# Altium schematic symbol library Components.SchLib: 4 symbols
Pins are listed as number, name and electrical type; pins without a type are passive.

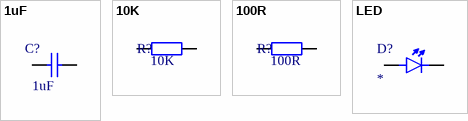
[diagram p0: symbols 1uF to LED]

## 1uF
designator C?
Capacitor; Voltage: 25V; Mouser Part Number: *; LCSC Part Number: C29936; Value: 1uF
footprint CAP0603 (1.6 x 0.8 x 0.8 mm)
pins: 1, 2

## 10K
designator R?
Resistor; Mouser Part Number: *; LCSC Part Number: C98220; Value: 10K
footprint RES0603 (Resistor 0603 (1608 metric))
footprint RES0805 (Resistor 0805 (2012 metric))
footprint RES1206
footprint RES1206_KELVIN (Footprint for 4-wire kelvin voltage measurement.)
pins: 1, 2

## 100R
designator R?
Resistor; Mouser Part Number: *; LCSC Part Number: C105588; Value: 100R
footprint RES0603 (Resistor 0603 (1608 metric))
footprint RES0805 (Resistor 0805 (2012 metric))
footprint RES1206
footprint RES1206_KELVIN (Footprint for 4-wire kelvin voltage measurement.)
pins: 1, 2

## LED
designator D?
Light Emitting Diode; Vf: 2.3V; Mouser Part Number: *; LCSC Part Number: C965800
footprint LED0603 (LEDC1608X80N)
pins: A, C